# EAGLE library part PDB182-K430K-503A (library Pot-PDB18)
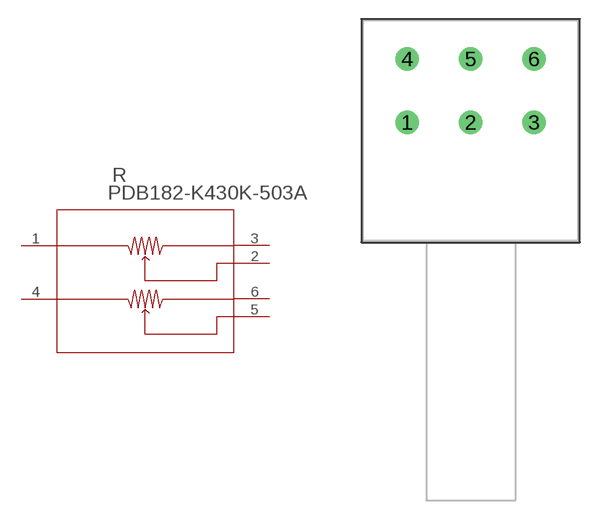
[diagram p0: symbol with the pads of PDB18-2; footprint PDB18-2]

Designator prefix R

## PDB182-K430K-503A (BUILT_BY: EMA_Cory; COPYRIGHT: Copyright (C) 2018 Accelerated Designs. All rights reserved; DATASHEET: https://www.bourns.com/docs/Product-Datasheets/PDB18.pdf; MANUFACTURER_PART_NUMBER: PDB182-K420K-103A2; SOURCELIBRARY: Bourns_Electronics_2020-05-06; VENDOR: Bourns Electronics)  [PDB18-2]
1  1  pas
2  2  pas
3  3  pas
4  4  pas
5  5  pas
6  6  pas

## Footprint PDB18-2 (pad centres in mm)
drill 1.245 pad 1.753: 1 0,0; 2 5.004,0; 3 10.008,0; 4 0,5.004; 5 5.004,5.004; 6 10.008,5.004